# Altium schematic symbol library key_lib.SchLib: 2 symbols
Pins are listed as number, name and electrical type; pins without a type are passive.

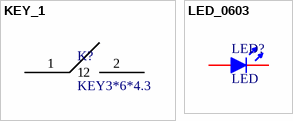
[diagram p0: symbols KEY_1 to LED_0603]

## KEY_1
designator K?, comment KEY3*6*4.3
footprint KEY_1
pins: 1, 2

## LED_0603
designator LED?, comment LED
pins: 1, 2